# Altium integrated library Linear Technology Power Management LED Driver ICs.IntLib: 490 symbols (part 32 of 48)
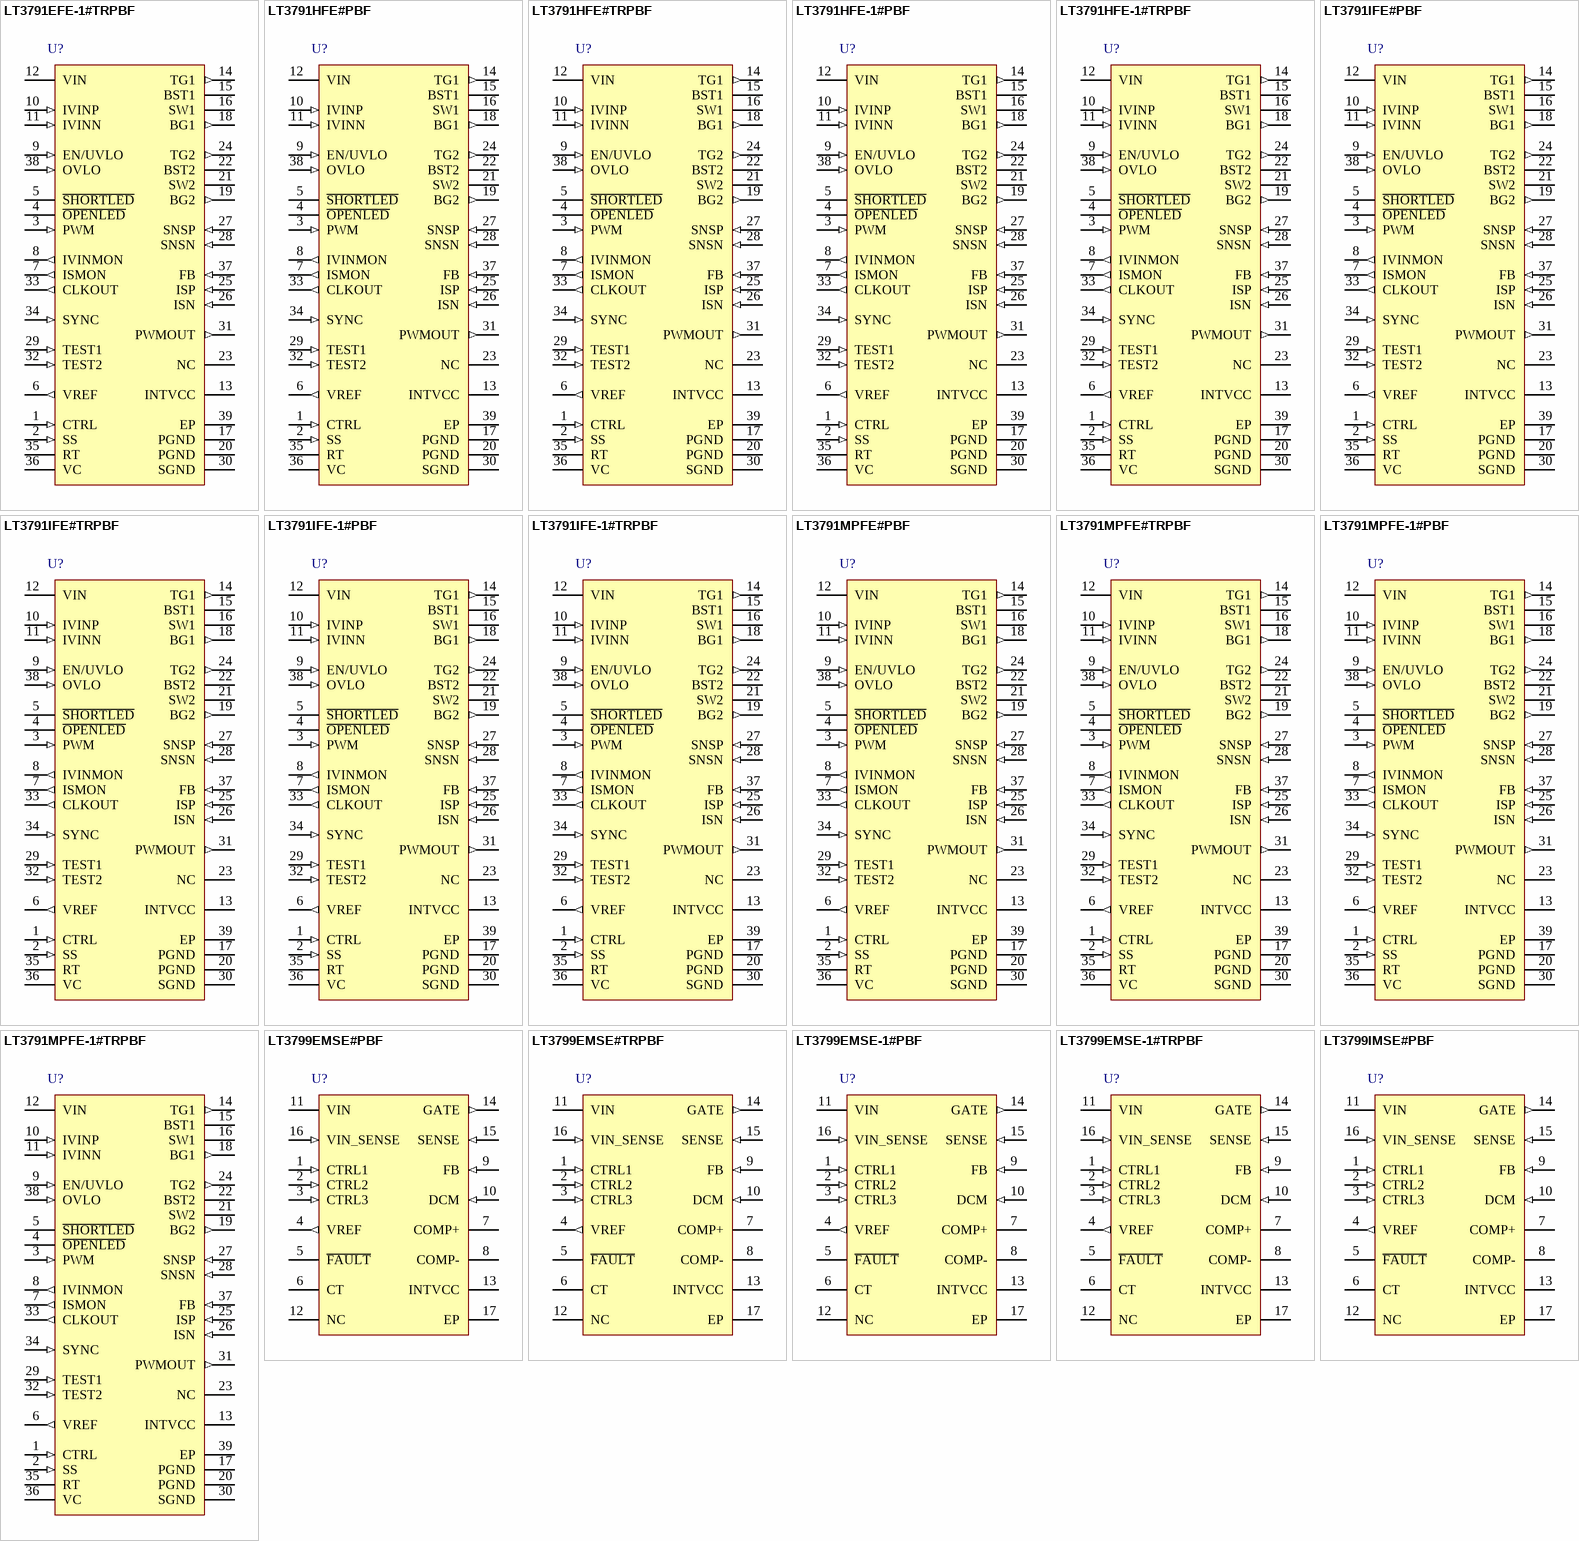
[diagram p51: symbols LT3791EFE-1#TRPBF to LT3799IMSE#PBF]

## LT3791IFE-1#TRPBF
designator U?
4-Switch Synchronous Buck-Boost LED Driver Controller, 4.7 to 60 V Vin, 60 V Vout MAX, 38-pin SOP (FE-28-EPV-AA), -40 to 125 degC, Pb-Free, Tape and Reel; Manufacturer: Linear Technology; PartNumber: LT3791IFE-1#TRPBF; Vin Min(V): 4.7; DatasheetVersion: Rev. A; PackageVersion: Rev. C, 09/2010; PackageReference: FE-38; PackageDescription: 38-Pin Plastic TSSOP, Body 9.7 x 4.4 mm, Pitch 0.5 mm; Supplier 1: Digi-Key; Supplier Part Number 1: LT3791IFE-1#TRPBF-ND; Supplier 2: Newark; Supplier Part Number 2: 27W9558; Packing: Tape and Reel; RoHS: TRUE; Topology: Buck-Boost; Mounting Technology: Surface Mount; ComponentLink1Description: Manufacturer URL; ComponentLink1URL: http://www.linear.com/; ComponentLink2Description: Datasheet; ComponentLink2URL: http://cds.linear.com/docs/en/datasheet/3791fa.pdf; ComponentLink3Description: Package Specification; ComponentLink3URL: http://cds.linear.com/docs/en/packaging/TSSOP_38_05-08-1772.pdf
footprint LT-FE-38-EPV-AA_N (SOP, 38-Leads, Body 9.8x4.5mm, Pitch 0.5mm, Thermal Pad 4.75x2.74mm, IPC Medium Density)
footprint LT-FE-38-EPV-AA_L (SOP, 38-Leads, Body 9.8x4.5mm, Pitch 0.5mm, Thermal Pad 4.75x2.74mm, IPC High Density)
footprint LT-FE-38-EPV-AA_M (SOP, 38-Leads, Body 9.8x4.5mm, Pitch 0.5mm, Thermal Pad 4.75x2.74mm, IPC Low Density)
pins: 1 CTRL (in) "Current Sense Threshold Adjustment Pin for Analog Dimming. Regulating threshold V(ISP-ISN) is 1/10th of (VCTRL - 200mV). CTRL linear range is from 200mV to 1.1V. For VCTRL > 1.3V, the current sense threshold is constant at (See Datasheet)", 2 SS (in) "Soft-start reduces the input power sources surge current by gradually increasing the controller’s current limit. A minimum value of 10nF is recommended on this pin. SS is used as a timer when an open or shorted LE(See Datasheet)", 3 PWM (in) "A signal low turns off switches, idles switching and disconnects the VC pin from all external loads. The PWMOUT pin follows the PWM pin. PWM has an internal 100k pull-down resistor. If not used, connect to INTVCC.", 4 ~{OPENLED} (oc) "An open-drain pull-down on O\P\E\N\L\E\D\ asserts if FB is greater than 1.15V (typical) and V(ISP-ISN) is less than 10mV (typical). To function, the pin requires an external pull-up resistor.", 5 ~{SHORTLED} (oc) "An open-drain pull-down on S\H\O\RT\L\E\D\ asserts if FB is less than 400mV (typical). To function, the pin requires an external pull-up resistor.", 6 VREF (out) "Voltage Reference Output Pin, Typically 2V. This pin drives a resistor divider for the CTRL pin, either for analog dimming or for temperature limit/compensation of the LED load. Can supply up to 200uA of current.", 7 ISMON (out) "Monitor pin that produces a voltage that is ten times the voltage V(ISP-ISN). ISMON will equal 1V when V(ISP-ISN) = 100mV.", 8 IVINMON (out) "Monitor pin that produces a voltage that is twenty times the voltage V(IVINP-IVINN). IVINMON will equal 1V when V(IVINP-IVINN) = 50mV.", 9 EN/UVLO (in) "Enable Control Pin. Forcing an accurate 1.2V falling threshold with an externally programmable hysteresis is generated by the external resistor divider and a 3uA pull-down current. Above the 1.2V (typical) threshold (but (See Datasheet)", 10 IVINP (in) "Positive Input for the Input Current Limit and Monitor. Input bias current for this pin is typically 90uA.", 11 IVINN (in) "Negative Input for the Input Current Limit and Monitor. The input bias current for this pin is typically 20uA.", 12 VIN (power) "Main Input Supply. Bypass this pin to PGND with a capacitor.", 13 INTVCC (power) "Internal 5V Regulator Output. The driver and control circuits are powered from this voltage. Bypass this pin to PGND with a minimum 4.7uF ceramic capacitor.", 14 TG1 (out) "Top Gate Drive. Drives the top N-channel MOSFET with a voltage equal to INTVCC superimposed on the switch node voltage SW1.", 15 BST1 "Bootstrapped Driver Supply. The BST1 pin swings from a diode voltage below INTVCC up to a diode voltage below VIN + INTVCC.", 16 SW1 "Switch Node. SW1 pin swings from a diode voltage drop below ground up to VIN.", 17 PGND (power) "Power Ground. Connect these pins closely to the source of the bottom N-channel MOSFET", 18 BG1 (out) "Bottom Gate Drive. Drives the gate of the bottom N-channel MOSFET between ground and INTVCC.", 19 BG2 (out) "Bottom Gate Drive. Drives the gate of the bottom N-channel MOSFET between ground and INTVCC.", 20 PGND (power) "Power Ground. Connect these pins closely to the source of the bottom N-channel MOSFET", 21 SW2 "Switch Node. SW2 pin swings from a diode voltage drop below ground up to VOUT.", 22 BST2 "Bootstrapped Driver Supply. The BST2 pin swings from a diode voltage below INTVCC up to a diode voltage below VOUT + INTVCC.", 23 NC "No Connect Pin. Leave this pin floating.", 24 TG2 (out) "Top Gate Drive. Drives the top N-channel MOSFET with a voltage equal to INTVCC superimposed on the switch node voltage SW2.", 25 ISP (in) "Connection Point for the Positive Terminal of the Output Current Feedback Resistor.", 26 ISN (in) "Connection Point for the Negative Terminal of the Output Current Feedback Resistor.", 27 SNSP (in) "The Positive Input to the Current Sense Comparator. The VC pin voltage and controlled offsets between the SNSP and SNSN pins, in conjunction with a resistor, set the current trip threshold.", 28 SNSN (in) "The Negative Input to the Current Sense Comparator.", 29 TEST1 (in) "This pin is used for testing purposes only and must be connected to SGND for the part to operate properly.", 30 SGND (power) "Signal Ground. All small-signal components and compensation should connect to this ground, which should be connected to PGND at a single point. Solder the exposed pad directly to the ground plane.", 31 PWMOUT (out) "Buffered Version of PWM Signal for Driving LED Load Disconnect N-Channel MOSFET. The PWMOUT pin is driven from INTVCC. Use of a MOSFET with a gate cutoff voltage higher than 1V is recommended.", 32 TEST2 (in) "This pin is used for testing purposes only and must be connected to INTVCC (Pin 13) for the part to operate properly.", 33 CLKOUT (out) "Clock Output Pin. An in-phase clock is provided at the oscillator frequency to allow for synchronizing two devices for extending output power capability.", 34 SYNC (in) "External Synchronization Input Pin. This pin is internally terminated to GND with a 90k resistor. The rising edge will be synchronized with the rising edge of the SYNC signal.", 35 RT "Frequency Set Pin. Place a resistor to GND to set the internal frequency. The range of oscillation is 200kHz to 700kHz.", 36 VC "Current Control Threshold and Error Amplifier Compensation Point. The current comparator threshold increases with this control voltage. The voltage ranges from 0.7V to 1.9V.", 37 FB (in) "Voltage Loop Feedback Pin. FB is intended for LED protection of an open or shorted LED event. The internal transconductance amplifier with output VC will regulate FB to 1.2V (typical) through the DC/DC converter. If the FB (See Datasheet)", 38 OVLO (in) "Overvoltage Input Pin. This pin is used for OVLO, if OVLO > 3V then SS is pulled low, the part stops switching and resets. Do not leave this pin open.", 39 EP (power) "Signal Ground. All small-signal components and compensation should connect to this ground, which should be connected to PGND at a single point. Solder the exposed pad directly to the ground plane."

## LT3791MPFE#PBF
designator U?
4-Switch Synchronous Buck-Boost LED Driver Controller, 4.7 to 60 V Vin, 60 V Vout MAX, 38-pin SOP (FE-28-EPV-AA), -55 to 150 degC, Pb-Free; Manufacturer: Linear Technology; PartNumber: LT3791MPFE#PBF; Vin Min(V): 4.7; DatasheetVersion: Rev. A; PackageVersion: Rev. C, 09/2010; PackageReference: FE-38; PackageDescription: 38-Pin Plastic TSSOP, Body 9.7 x 4.4 mm, Pitch 0.5 mm; Supplier 1: Digi-Key; Supplier Part Number 1: LT3791MPFE#PBF-ND; Supplier 2: Newark; Supplier Part Number 2: 94T1350; RoHS: TRUE; Topology: Buck-Boost; Mounting Technology: Surface Mount; ComponentLink1Description: Manufacturer URL; ComponentLink1URL: http://www.linear.com/; ComponentLink2Description: Datasheet; ComponentLink2URL: http://cds.linear.com/docs/en/datasheet/3791fa.pdf; ComponentLink3Description: Package Specification; ComponentLink3URL: http://cds.linear.com/docs/en/packaging/TSSOP_38_05-08-1772.pdf
footprint LT-FE-38-EPV-AA_N (SOP, 38-Leads, Body 9.8x4.5mm, Pitch 0.5mm, Thermal Pad 4.75x2.74mm, IPC Medium Density)
footprint LT-FE-38-EPV-AA_L (SOP, 38-Leads, Body 9.8x4.5mm, Pitch 0.5mm, Thermal Pad 4.75x2.74mm, IPC High Density)
footprint LT-FE-38-EPV-AA_M (SOP, 38-Leads, Body 9.8x4.5mm, Pitch 0.5mm, Thermal Pad 4.75x2.74mm, IPC Low Density)
pins: 1 CTRL (in) "Current Sense Threshold Adjustment Pin for Analog Dimming. Regulating threshold V(ISP-ISN) is 1/10th of (VCTRL - 200mV). CTRL linear range is from 200mV to 1.1V. For VCTRL > 1.3V, the current sense threshold is constant at (See Datasheet)", 2 SS (in) "Soft-start reduces the input power sources surge current by gradually increasing the controller’s current limit. A minimum value of 10nF is recommended on this pin. SS is used as a timer when an open or shorted LE(See Datasheet)", 3 PWM (in) "A signal low turns off switches, idles switching and disconnects the VC pin from all external loads. The PWMOUT pin follows the PWM pin. PWM has an internal 100k pull-down resistor. If not used, connect to INTVCC.", 4 ~{OPENLED} (oc) "An open-drain pull-down on O\P\E\N\L\E\D\ asserts if FB is greater than 1.15V (typical) and V(ISP-ISN) is less than 10mV (typical). To function, the pin requires an external pull-up resistor.", 5 ~{SHORTLED} (oc) "An open-drain pull-down on S\H\O\RT\L\E\D\ asserts if FB is less than 400mV (typical). To function, the pin requires an external pull-up resistor.", 6 VREF (out) "Voltage Reference Output Pin, Typically 2V. This pin drives a resistor divider for the CTRL pin, either for analog dimming or for temperature limit/compensation of the LED load. Can supply up to 200uA of current.", 7 ISMON (out) "Monitor pin that produces a voltage that is ten times the voltage V(ISP-ISN). ISMON will equal 1V when V(ISP-ISN) = 100mV.", 8 IVINMON (out) "Monitor pin that produces a voltage that is twenty times the voltage V(IVINP-IVINN). IVINMON will equal 1V when V(IVINP-IVINN) = 50mV.", 9 EN/UVLO (in) "Enable Control Pin. Forcing an accurate 1.2V falling threshold with an externally programmable hysteresis is generated by the external resistor divider and a 3uA pull-down current. Above the 1.2V (typical) threshold (but (See Datasheet)", 10 IVINP (in) "Positive Input for the Input Current Limit and Monitor. Input bias current for this pin is typically 90uA.", 11 IVINN (in) "Negative Input for the Input Current Limit and Monitor. The input bias current for this pin is typically 20uA.", 12 VIN (power) "Main Input Supply. Bypass this pin to PGND with a capacitor.", 13 INTVCC (power) "Internal 5V Regulator Output. The driver and control circuits are powered from this voltage. Bypass this pin to PGND with a minimum 4.7uF ceramic capacitor.", 14 TG1 (out) "Top Gate Drive. Drives the top N-channel MOSFET with a voltage equal to INTVCC superimposed on the switch node voltage SW1.", 15 BST1 "Bootstrapped Driver Supply. The BST1 pin swings from a diode voltage below INTVCC up to a diode voltage below VIN + INTVCC.", 16 SW1 "Switch Node. SW1 pin swings from a diode voltage drop below ground up to VIN.", 17 PGND (power) "Power Ground. Connect these pins closely to the source of the bottom N-channel MOSFET", 18 BG1 (out) "Bottom Gate Drive. Drives the gate of the bottom N-channel MOSFET between ground and INTVCC.", 19 BG2 (out) "Bottom Gate Drive. Drives the gate of the bottom N-channel MOSFET between ground and INTVCC.", 20 PGND (power) "Power Ground. Connect these pins closely to the source of the bottom N-channel MOSFET", 21 SW2 "Switch Node. SW2 pin swings from a diode voltage drop below ground up to VOUT.", 22 BST2 "Bootstrapped Driver Supply. The BST2 pin swings from a diode voltage below INTVCC up to a diode voltage below VOUT + INTVCC.", 23 NC "No Connect Pin. Leave this pin floating.", 24 TG2 (out) "Top Gate Drive. Drives the top N-channel MOSFET with a voltage equal to INTVCC superimposed on the switch node voltage SW2.", 25 ISP (in) "Connection Point for the Positive Terminal of the Output Current Feedback Resistor.", 26 ISN (in) "Connection Point for the Negative Terminal of the Output Current Feedback Resistor.", 27 SNSP (in) "The Positive Input to the Current Sense Comparator. The VC pin voltage and controlled offsets between the SNSP and SNSN pins, in conjunction with a resistor, set the current trip threshold.", 28 SNSN (in) "The Negative Input to the Current Sense Comparator.", 29 TEST1 (in) "This pin is used for testing purposes only and must be connected to SGND for the part to operate properly.", 30 SGND (power) "Signal Ground. All small-signal components and compensation should connect to this ground, which should be connected to PGND at a single point. Solder the exposed pad directly to the ground plane.", 31 PWMOUT (out) "Buffered Version of PWM Signal for Driving LED Load Disconnect N-Channel MOSFET. The PWMOUT pin is driven from INTVCC. Use of a MOSFET with a gate cutoff voltage higher than 1V is recommended.", 32 TEST2 (in) "This pin is used for testing purposes only and must be connected to INTVCC (Pin 13) for the part to operate properly.", 33 CLKOUT (out) "Clock Output Pin. An in-phase clock is provided at the oscillator frequency to allow for synchronizing two devices for extending output power capability.", 34 SYNC (in) "External Synchronization Input Pin. This pin is internally terminated to GND with a 90k resistor. The rising edge will be synchronized with the rising edge of the SYNC signal.", 35 RT "Frequency Set Pin. Place a resistor to GND to set the internal frequency. The range of oscillation is 200kHz to 700kHz.", 36 VC "Current Control Threshold and Error Amplifier Compensation Point. The current comparator threshold increases with this control voltage. The voltage ranges from 0.7V to 1.9V.", 37 FB (in) "Voltage Loop Feedback Pin. FB is intended for LED protection of an open or shorted LED event. The internal transconductance amplifier with output VC will regulate FB to 1.2V (typical) through the DC/DC converter. If the FB (See Datasheet)", 38 OVLO (in) "Overvoltage Input Pin. This pin is used for OVLO, if OVLO > 3V then SS is pulled low, the part stops switching and resets. Do not leave this pin open.", 39 EP (power) "Signal Ground. All small-signal components and compensation should connect to this ground, which should be connected to PGND at a single point. Solder the exposed pad directly to the ground plane."

## LT3791MPFE#TRPBF
designator U?
4-Switch Synchronous Buck-Boost LED Driver Controller, 4.7 to 60 V Vin, 60 V Vout MAX, 38-pin SOP (FE-28-EPV-AA), -55 to 150 degC, Pb-Free, Tape and Reel; Manufacturer: Linear Technology; PartNumber: LT3791MPFE#TRPBF; Vin Min(V): 4.7; DatasheetVersion: Rev. A; PackageVersion: Rev. C, 09/2010; PackageReference: FE-38; PackageDescription: 38-Pin Plastic TSSOP, Body 9.7 x 4.4 mm, Pitch 0.5 mm; Supplier 1: Digi-Key; Supplier Part Number 1: LT3791MPFE#TRPBF-ND; Supplier 2: Newark; Supplier Part Number 2: 94T1351; Packing: Tape and Reel; RoHS: TRUE; Topology: Buck-Boost; Mounting Technology: Surface Mount; ComponentLink1Description: Manufacturer URL; ComponentLink1URL: http://www.linear.com/; ComponentLink2Description: Datasheet; ComponentLink2URL: http://cds.linear.com/docs/en/datasheet/3791fa.pdf; ComponentLink3Description: Package Specification; ComponentLink3URL: http://cds.linear.com/docs/en/packaging/TSSOP_38_05-08-1772.pdf
footprint LT-FE-38-EPV-AA_N (SOP, 38-Leads, Body 9.8x4.5mm, Pitch 0.5mm, Thermal Pad 4.75x2.74mm, IPC Medium Density)
footprint LT-FE-38-EPV-AA_L (SOP, 38-Leads, Body 9.8x4.5mm, Pitch 0.5mm, Thermal Pad 4.75x2.74mm, IPC High Density)
footprint LT-FE-38-EPV-AA_M (SOP, 38-Leads, Body 9.8x4.5mm, Pitch 0.5mm, Thermal Pad 4.75x2.74mm, IPC Low Density)
pins: 1 CTRL (in) "Current Sense Threshold Adjustment Pin for Analog Dimming. Regulating threshold V(ISP-ISN) is 1/10th of (VCTRL - 200mV). CTRL linear range is from 200mV to 1.1V. For VCTRL > 1.3V, the current sense threshold is constant at (See Datasheet)", 2 SS (in) "Soft-start reduces the input power sources surge current by gradually increasing the controller’s current limit. A minimum value of 10nF is recommended on this pin. SS is used as a timer when an open or shorted LE(See Datasheet)", 3 PWM (in) "A signal low turns off switches, idles switching and disconnects the VC pin from all external loads. The PWMOUT pin follows the PWM pin. PWM has an internal 100k pull-down resistor. If not used, connect to INTVCC.", 4 ~{OPENLED} (oc) "An open-drain pull-down on O\P\E\N\L\E\D\ asserts if FB is greater than 1.15V (typical) and V(ISP-ISN) is less than 10mV (typical). To function, the pin requires an external pull-up resistor.", 5 ~{SHORTLED} (oc) "An open-drain pull-down on S\H\O\RT\L\E\D\ asserts if FB is less than 400mV (typical). To function, the pin requires an external pull-up resistor.", 6 VREF (out) "Voltage Reference Output Pin, Typically 2V. This pin drives a resistor divider for the CTRL pin, either for analog dimming or for temperature limit/compensation of the LED load. Can supply up to 200uA of current.", 7 ISMON (out) "Monitor pin that produces a voltage that is ten times the voltage V(ISP-ISN). ISMON will equal 1V when V(ISP-ISN) = 100mV.", 8 IVINMON (out) "Monitor pin that produces a voltage that is twenty times the voltage V(IVINP-IVINN). IVINMON will equal 1V when V(IVINP-IVINN) = 50mV.", 9 EN/UVLO (in) "Enable Control Pin. Forcing an accurate 1.2V falling threshold with an externally programmable hysteresis is generated by the external resistor divider and a 3uA pull-down current. Above the 1.2V (typical) threshold (but (See Datasheet)", 10 IVINP (in) "Positive Input for the Input Current Limit and Monitor. Input bias current for this pin is typically 90uA.", 11 IVINN (in) "Negative Input for the Input Current Limit and Monitor. The input bias current for this pin is typically 20uA.", 12 VIN (power) "Main Input Supply. Bypass this pin to PGND with a capacitor.", 13 INTVCC (power) "Internal 5V Regulator Output. The driver and control circuits are powered from this voltage. Bypass this pin to PGND with a minimum 4.7uF ceramic capacitor.", 14 TG1 (out) "Top Gate Drive. Drives the top N-channel MOSFET with a voltage equal to INTVCC superimposed on the switch node voltage SW1.", 15 BST1 "Bootstrapped Driver Supply. The BST1 pin swings from a diode voltage below INTVCC up to a diode voltage below VIN + INTVCC.", 16 SW1 "Switch Node. SW1 pin swings from a diode voltage drop below ground up to VIN.", 17 PGND (power) "Power Ground. Connect these pins closely to the source of the bottom N-channel MOSFET", 18 BG1 (out) "Bottom Gate Drive. Drives the gate of the bottom N-channel MOSFET between ground and INTVCC.", 19 BG2 (out) "Bottom Gate Drive. Drives the gate of the bottom N-channel MOSFET between ground and INTVCC.", 20 PGND (power) "Power Ground. Connect these pins closely to the source of the bottom N-channel MOSFET", 21 SW2 "Switch Node. SW2 pin swings from a diode voltage drop below ground up to VOUT.", 22 BST2 "Bootstrapped Driver Supply. The BST2 pin swings from a diode voltage below INTVCC up to a diode voltage below VOUT + INTVCC.", 23 NC "No Connect Pin. Leave this pin floating.", 24 TG2 (out) "Top Gate Drive. Drives the top N-channel MOSFET with a voltage equal to INTVCC superimposed on the switch node voltage SW2.", 25 ISP (in) "Connection Point for the Positive Terminal of the Output Current Feedback Resistor.", 26 ISN (in) "Connection Point for the Negative Terminal of the Output Current Feedback Resistor.", 27 SNSP (in) "The Positive Input to the Current Sense Comparator. The VC pin voltage and controlled offsets between the SNSP and SNSN pins, in conjunction with a resistor, set the current trip threshold.", 28 SNSN (in) "The Negative Input to the Current Sense Comparator.", 29 TEST1 (in) "This pin is used for testing purposes only and must be connected to SGND for the part to operate properly.", 30 SGND (power) "Signal Ground. All small-signal components and compensation should connect to this ground, which should be connected to PGND at a single point. Solder the exposed pad directly to the ground plane.", 31 PWMOUT (out) "Buffered Version of PWM Signal for Driving LED Load Disconnect N-Channel MOSFET. The PWMOUT pin is driven from INTVCC. Use of a MOSFET with a gate cutoff voltage higher than 1V is recommended.", 32 TEST2 (in) "This pin is used for testing purposes only and must be connected to INTVCC (Pin 13) for the part to operate properly.", 33 CLKOUT (out) "Clock Output Pin. An in-phase clock is provided at the oscillator frequency to allow for synchronizing two devices for extending output power capability.", 34 SYNC (in) "External Synchronization Input Pin. This pin is internally terminated to GND with a 90k resistor. The rising edge will be synchronized with the rising edge of the SYNC signal.", 35 RT "Frequency Set Pin. Place a resistor to GND to set the internal frequency. The range of oscillation is 200kHz to 700kHz.", 36 VC "Current Control Threshold and Error Amplifier Compensation Point. The current comparator threshold increases with this control voltage. The voltage ranges from 0.7V to 1.9V.", 37 FB (in) "Voltage Loop Feedback Pin. FB is intended for LED protection of an open or shorted LED event. The internal transconductance amplifier with output VC will regulate FB to 1.2V (typical) through the DC/DC converter. If the FB (See Datasheet)", 38 OVLO (in) "Overvoltage Input Pin. This pin is used for OVLO, if OVLO > 3V then SS is pulled low, the part stops switching and resets. Do not leave this pin open.", 39 EP (power) "Signal Ground. All small-signal components and compensation should connect to this ground, which should be connected to PGND at a single point. Solder the exposed pad directly to the ground plane."

## LT3791MPFE-1#PBF
designator U?
4-Switch Synchronous Buck-Boost LED Driver Controller, 4.7 to 60 V Vin, 60 V Vout MAX, 38-pin SOP (FE-28-EPV-AA), -55 to 150 degC, Pb-Free; Manufacturer: Linear Technology; PartNumber: LT3791MPFE-1#PBF; Vin Min(V): 4.7; DatasheetVersion: Rev. A; PackageVersion: Rev. C, 09/2010; PackageReference: FE-38; PackageDescription: 38-Pin Plastic TSSOP, Body 9.7 x 4.4 mm, Pitch 0.5 mm; Supplier 1: Digi-Key; Supplier Part Number 1: LT3791MPFE-1#PBF-ND; Supplier 2: Newark; Supplier Part Number 2: 27W9559; RoHS: TRUE; Topology: Buck-Boost; Mounting Technology: Surface Mount; ComponentLink1Description: Manufacturer URL; ComponentLink1URL: http://www.linear.com/; ComponentLink2Description: Datasheet; ComponentLink2URL: http://cds.linear.com/docs/en/datasheet/3791fa.pdf; ComponentLink3Description: Package Specification; ComponentLink3URL: http://cds.linear.com/docs/en/packaging/TSSOP_38_05-08-1772.pdf
footprint LT-FE-38-EPV-AA_N (SOP, 38-Leads, Body 9.8x4.5mm, Pitch 0.5mm, Thermal Pad 4.75x2.74mm, IPC Medium Density)
footprint LT-FE-38-EPV-AA_L (SOP, 38-Leads, Body 9.8x4.5mm, Pitch 0.5mm, Thermal Pad 4.75x2.74mm, IPC High Density)
footprint LT-FE-38-EPV-AA_M (SOP, 38-Leads, Body 9.8x4.5mm, Pitch 0.5mm, Thermal Pad 4.75x2.74mm, IPC Low Density)
pins: 1 CTRL (in) "Current Sense Threshold Adjustment Pin for Analog Dimming. Regulating threshold V(ISP-ISN) is 1/10th of (VCTRL - 200mV). CTRL linear range is from 200mV to 1.1V. For VCTRL > 1.3V, the current sense threshold is constant at (See Datasheet)", 2 SS (in) "Soft-start reduces the input power sources surge current by gradually increasing the controller’s current limit. A minimum value of 10nF is recommended on this pin. SS is used as a timer when an open or shorted LE(See Datasheet)", 3 PWM (in) "A signal low turns off switches, idles switching and disconnects the VC pin from all external loads. The PWMOUT pin follows the PWM pin. PWM has an internal 100k pull-down resistor. If not used, connect to INTVCC.", 4 ~{OPENLED} (oc) "An open-drain pull-down on O\P\E\N\L\E\D\ asserts if FB is greater than 1.15V (typical) and V(ISP-ISN) is less than 10mV (typical). To function, the pin requires an external pull-up resistor.", 5 ~{SHORTLED} (oc) "An open-drain pull-down on S\H\O\RT\L\E\D\ asserts if FB is less than 400mV (typical). To function, the pin requires an external pull-up resistor.", 6 VREF (out) "Voltage Reference Output Pin, Typically 2V. This pin drives a resistor divider for the CTRL pin, either for analog dimming or for temperature limit/compensation of the LED load. Can supply up to 200uA of current.", 7 ISMON (out) "Monitor pin that produces a voltage that is ten times the voltage V(ISP-ISN). ISMON will equal 1V when V(ISP-ISN) = 100mV.", 8 IVINMON (out) "Monitor pin that produces a voltage that is twenty times the voltage V(IVINP-IVINN). IVINMON will equal 1V when V(IVINP-IVINN) = 50mV.", 9 EN/UVLO (in) "Enable Control Pin. Forcing an accurate 1.2V falling threshold with an externally programmable hysteresis is generated by the external resistor divider and a 3uA pull-down current. Above the 1.2V (typical) threshold (but (See Datasheet)", 10 IVINP (in) "Positive Input for the Input Current Limit and Monitor. Input bias current for this pin is typically 90uA.", 11 IVINN (in) "Negative Input for the Input Current Limit and Monitor. The input bias current for this pin is typically 20uA.", 12 VIN (power) "Main Input Supply. Bypass this pin to PGND with a capacitor.", 13 INTVCC (power) "Internal 5V Regulator Output. The driver and control circuits are powered from this voltage. Bypass this pin to PGND with a minimum 4.7uF ceramic capacitor.", 14 TG1 (out) "Top Gate Drive. Drives the top N-channel MOSFET with a voltage equal to INTVCC superimposed on the switch node voltage SW1.", 15 BST1 "Bootstrapped Driver Supply. The BST1 pin swings from a diode voltage below INTVCC up to a diode voltage below VIN + INTVCC.", 16 SW1 "Switch Node. SW1 pin swings from a diode voltage drop below ground up to VIN.", 17 PGND (power) "Power Ground. Connect these pins closely to the source of the bottom N-channel MOSFET", 18 BG1 (out) "Bottom Gate Drive. Drives the gate of the bottom N-channel MOSFET between ground and INTVCC.", 19 BG2 (out) "Bottom Gate Drive. Drives the gate of the bottom N-channel MOSFET between ground and INTVCC.", 20 PGND (power) "Power Ground. Connect these pins closely to the source of the bottom N-channel MOSFET", 21 SW2 "Switch Node. SW2 pin swings from a diode voltage drop below ground up to VOUT.", 22 BST2 "Bootstrapped Driver Supply. The BST2 pin swings from a diode voltage below INTVCC up to a diode voltage below VOUT + INTVCC.", 23 NC "No Connect Pin. Leave this pin floating.", 24 TG2 (out) "Top Gate Drive. Drives the top N-channel MOSFET with a voltage equal to INTVCC superimposed on the switch node voltage SW2.", 25 ISP (in) "Connection Point for the Positive Terminal of the Output Current Feedback Resistor.", 26 ISN (in) "Connection Point for the Negative Terminal of the Output Current Feedback Resistor.", 27 SNSP (in) "The Positive Input to the Current Sense Comparator. The VC pin voltage and controlled offsets between the SNSP and SNSN pins, in conjunction with a resistor, set the current trip threshold.", 28 SNSN (in) "The Negative Input to the Current Sense Comparator.", 29 TEST1 (in) "This pin is used for testing purposes only and must be connected to SGND for the part to operate properly.", 30 SGND (power) "Signal Ground. All small-signal components and compensation should connect to this ground, which should be connected to PGND at a single point. Solder the exposed pad directly to the ground plane.", 31 PWMOUT (out) "Buffered Version of PWM Signal for Driving LED Load Disconnect N-Channel MOSFET. The PWMOUT pin is driven from INTVCC. Use of a MOSFET with a gate cutoff voltage higher than 1V is recommended.", 32 TEST2 (in) "This pin is used for testing purposes only and must be connected to INTVCC (Pin 13) for the part to operate properly.", 33 CLKOUT (out) "Clock Output Pin. An in-phase clock is provided at the oscillator frequency to allow for synchronizing two devices for extending output power capability.", 34 SYNC (in) "External Synchronization Input Pin. This pin is internally terminated to GND with a 90k resistor. The rising edge will be synchronized with the rising edge of the SYNC signal.", 35 RT "Frequency Set Pin. Place a resistor to GND to set the internal frequency. The range of oscillation is 200kHz to 700kHz.", 36 VC "Current Control Threshold and Error Amplifier Compensation Point. The current comparator threshold increases with this control voltage. The voltage ranges from 0.7V to 1.9V.", 37 FB (in) "Voltage Loop Feedback Pin. FB is intended for LED protection of an open or shorted LED event. The internal transconductance amplifier with output VC will regulate FB to 1.2V (typical) through the DC/DC converter. If the FB (See Datasheet)", 38 OVLO (in) "Overvoltage Input Pin. This pin is used for OVLO, if OVLO > 3V then SS is pulled low, the part stops switching and resets. Do not leave this pin open.", 39 EP (power) "Signal Ground. All small-signal components and compensation should connect to this ground, which should be connected to PGND at a single point. Solder the exposed pad directly to the ground plane."

## LT3791MPFE-1#TRPBF
designator U?
4-Switch Synchronous Buck-Boost LED Driver Controller, 4.7 to 60 V Vin, 60 V Vout MAX, 38-pin SOP (FE-28-EPV-AA), -55 to 150 degC, Pb-Free, Tape and Reel; Manufacturer: Linear Technology; PartNumber: LT3791MPFE-1#TRPBF; Vin Min(V): 4.7; DatasheetVersion: Rev. A; PackageVersion: Rev. C, 09/2010; PackageReference: FE-38; PackageDescription: 38-Pin Plastic TSSOP, Body 9.7 x 4.4 mm, Pitch 0.5 mm; Supplier 1: Digi-Key; Supplier Part Number 1: LT3791MPFE-1#TRPBF-ND; Supplier 2: Newark; Supplier Part Number 2: 27W9560; Packing: Tape and Reel; RoHS: TRUE; Topology: Buck-Boost; Mounting Technology: Surface Mount; ComponentLink1Description: Manufacturer URL; ComponentLink1URL: http://www.linear.com/; ComponentLink2Description: Datasheet; ComponentLink2URL: http://cds.linear.com/docs/en/datasheet/3791fa.pdf; ComponentLink3Description: Package Specification; ComponentLink3URL: http://cds.linear.com/docs/en/packaging/TSSOP_38_05-08-1772.pdf
footprint LT-FE-38-EPV-AA_N (SOP, 38-Leads, Body 9.8x4.5mm, Pitch 0.5mm, Thermal Pad 4.75x2.74mm, IPC Medium Density)
footprint LT-FE-38-EPV-AA_L (SOP, 38-Leads, Body 9.8x4.5mm, Pitch 0.5mm, Thermal Pad 4.75x2.74mm, IPC High Density)
footprint LT-FE-38-EPV-AA_M (SOP, 38-Leads, Body 9.8x4.5mm, Pitch 0.5mm, Thermal Pad 4.75x2.74mm, IPC Low Density)
pins: 1 CTRL (in) "Current Sense Threshold Adjustment Pin for Analog Dimming. Regulating threshold V(ISP-ISN) is 1/10th of (VCTRL - 200mV). CTRL linear range is from 200mV to 1.1V. For VCTRL > 1.3V, the current sense threshold is constant at (See Datasheet)", 2 SS (in) "Soft-start reduces the input power sources surge current by gradually increasing the controller’s current limit. A minimum value of 10nF is recommended on this pin. SS is used as a timer when an open or shorted LE(See Datasheet)", 3 PWM (in) "A signal low turns off switches, idles switching and disconnects the VC pin from all external loads. The PWMOUT pin follows the PWM pin. PWM has an internal 100k pull-down resistor. If not used, connect to INTVCC.", 4 ~{OPENLED} (oc) "An open-drain pull-down on O\P\E\N\L\E\D\ asserts if FB is greater than 1.15V (typical) and V(ISP-ISN) is less than 10mV (typical). To function, the pin requires an external pull-up resistor.", 5 ~{SHORTLED} (oc) "An open-drain pull-down on S\H\O\RT\L\E\D\ asserts if FB is less than 400mV (typical). To function, the pin requires an external pull-up resistor.", 6 VREF (out) "Voltage Reference Output Pin, Typically 2V. This pin drives a resistor divider for the CTRL pin, either for analog dimming or for temperature limit/compensation of the LED load. Can supply up to 200uA of current.", 7 ISMON (out) "Monitor pin that produces a voltage that is ten times the voltage V(ISP-ISN). ISMON will equal 1V when V(ISP-ISN) = 100mV.", 8 IVINMON (out) "Monitor pin that produces a voltage that is twenty times the voltage V(IVINP-IVINN). IVINMON will equal 1V when V(IVINP-IVINN) = 50mV.", 9 EN/UVLO (in) "Enable Control Pin. Forcing an accurate 1.2V falling threshold with an externally programmable hysteresis is generated by the external resistor divider and a 3uA pull-down current. Above the 1.2V (typical) threshold (but (See Datasheet)", 10 IVINP (in) "Positive Input for the Input Current Limit and Monitor. Input bias current for this pin is typically 90uA.", 11 IVINN (in) "Negative Input for the Input Current Limit and Monitor. The input bias current for this pin is typically 20uA.", 12 VIN (power) "Main Input Supply. Bypass this pin to PGND with a capacitor.", 13 INTVCC (power) "Internal 5V Regulator Output. The driver and control circuits are powered from this voltage. Bypass this pin to PGND with a minimum 4.7uF ceramic capacitor.", 14 TG1 (out) "Top Gate Drive. Drives the top N-channel MOSFET with a voltage equal to INTVCC superimposed on the switch node voltage SW1.", 15 BST1 "Bootstrapped Driver Supply. The BST1 pin swings from a diode voltage below INTVCC up to a diode voltage below VIN + INTVCC.", 16 SW1 "Switch Node. SW1 pin swings from a diode voltage drop below ground up to VIN.", 17 PGND (power) "Power Ground. Connect these pins closely to the source of the bottom N-channel MOSFET", 18 BG1 (out) "Bottom Gate Drive. Drives the gate of the bottom N-channel MOSFET between ground and INTVCC.", 19 BG2 (out) "Bottom Gate Drive. Drives the gate of the bottom N-channel MOSFET between ground and INTVCC.", 20 PGND (power) "Power Ground. Connect these pins closely to the source of the bottom N-channel MOSFET", 21 SW2 "Switch Node. SW2 pin swings from a diode voltage drop below ground up to VOUT.", 22 BST2 "Bootstrapped Driver Supply. The BST2 pin swings from a diode voltage below INTVCC up to a diode voltage below VOUT + INTVCC.", 23 NC "No Connect Pin. Leave this pin floating.", 24 TG2 (out) "Top Gate Drive. Drives the top N-channel MOSFET with a voltage equal to INTVCC superimposed on the switch node voltage SW2.", 25 ISP (in) "Connection Point for the Positive Terminal of the Output Current Feedback Resistor.", 26 ISN (in) "Connection Point for the Negative Terminal of the Output Current Feedback Resistor.", 27 SNSP (in) "The Positive Input to the Current Sense Comparator. The VC pin voltage and controlled offsets between the SNSP and SNSN pins, in conjunction with a resistor, set the current trip threshold.", 28 SNSN (in) "The Negative Input to the Current Sense Comparator.", 29 TEST1 (in) "This pin is used for testing purposes only and must be connected to SGND for the part to operate properly.", 30 SGND (power) "Signal Ground. All small-signal components and compensation should connect to this ground, which should be connected to PGND at a single point. Solder the exposed pad directly to the ground plane.", 31 PWMOUT (out) "Buffered Version of PWM Signal for Driving LED Load Disconnect N-Channel MOSFET. The PWMOUT pin is driven from INTVCC. Use of a MOSFET with a gate cutoff voltage higher than 1V is recommended.", 32 TEST2 (in) "This pin is used for testing purposes only and must be connected to INTVCC (Pin 13) for the part to operate properly.", 33 CLKOUT (out) "Clock Output Pin. An in-phase clock is provided at the oscillator frequency to allow for synchronizing two devices for extending output power capability.", 34 SYNC (in) "External Synchronization Input Pin. This pin is internally terminated to GND with a 90k resistor. The rising edge will be synchronized with the rising edge of the SYNC signal.", 35 RT "Frequency Set Pin. Place a resistor to GND to set the internal frequency. The range of oscillation is 200kHz to 700kHz.", 36 VC "Current Control Threshold and Error Amplifier Compensation Point. The current comparator threshold increases with this control voltage. The voltage ranges from 0.7V to 1.9V.", 37 FB (in) "Voltage Loop Feedback Pin. FB is intended for LED protection of an open or shorted LED event. The internal transconductance amplifier with output VC will regulate FB to 1.2V (typical) through the DC/DC converter. If the FB (See Datasheet)", 38 OVLO (in) "Overvoltage Input Pin. This pin is used for OVLO, if OVLO > 3V then SS is pulled low, the part stops switching and resets. Do not leave this pin open.", 39 EP (power) "Signal Ground. All small-signal components and compensation should connect to this ground, which should be connected to PGND at a single point. Solder the exposed pad directly to the ground plane."

## LT3799EMSE#PBF
designator U?
Offline Isolated Flyback LED Controller with Active PFC, Offline 4 to 100 W+ LED Application, 16-pin SOP (MSE-16-EDP), -40 to 125 degC, Pb-Free; Manufacturer: Linear Technology; PartNumber: LT3799EMSE#PBF; DatasheetVersion: Rev. A; PackageVersion: Rev. F, 05/2013; PackageReference: MSE-16; PackageDescription: 16-Pin Plastic MSOP, Exposed Die Pad, Body 4.039 x 3 mm, Pitch 0.5 mm; Supplier 1: Digi-Key; Supplier Part Number 1: LT3799EMSE#PBF-ND; Supplier 2: Newark; Supplier Part Number 2: 28T0559; RoHS: TRUE; Topology: Flyback; Mounting Technology: Surface Mount; ComponentLink1Description: Manufacturer URL; ComponentLink1URL: http://www.linear.com/; ComponentLink2Description: Datasheet; ComponentLink2URL: http://cds.linear.com/docs/en/datasheet/3799fa.pdf; ComponentLink3Description: Package Specification; ComponentLink3URL: http://cds.linear.com/docs/en/packaging/05081667_F_MSE16.pdf
footprint LT-MSE-16-EDP_N (SOP, 16-Leads, Body 4.1x3.1mm, Pitch 0.5mm, Thermal Pad 2.95x1.76mm, IPC Medium Density)
footprint LT-MSE-16-EDP_L (SOP, 16-Leads, Body 4.1x3.1mm, Pitch 0.5mm, Thermal Pad 2.95x1.76mm, IPC High Density)
footprint LT-MSE-16-EDP_M (SOP, 16-Leads, Body 4.1x3.1mm, Pitch 0.5mm, Thermal Pad 2.95x1.76mm, IPC Low Density)
pins: 1 CTRL1 (in) "Current Output Adjustment Pins. These pins control the output current. The lowest value of the three CTRL inputs is compared to the negative input of the operational amplifier. Due to the unique nature of the LT3799 control (See Datasheet)", 2 CTRL2 (in) "Current Output Adjustment Pins. These pins control the output current. The lowest value of the three CTRL inputs is compared to the negative input of the operational amplifier. Due to the unique nature of the LT3799 control (See Datasheet)", 3 CTRL3 (in) "Current Output Adjustment Pins. These pins control the output current. The lowest value of the three CTRL inputs is compared to the negative input of the operational amplifier. Due to the unique nature of the LT3799 control (See Datasheet)", 4 VREF (out) "Voltage Reference Output Pin, Typically 2V. This pin drives a resistor divider for the CTRL pin, either for analog dimming or for temperature limit/compensation of LED load. Can supply up to 200uA.", 5 ~{FAULT} (oc) "Fault Pin. An open-collector pull-down on F\A\U\L\T\ asserts if FB is greater than 1.25V with the CT pin higher than 1.25V.", 6 CT "Timer Fault Pin. A capacitor is connected between this pin and ground to provide an internal timer for fault operations. During start-up, this pin is pulled to ground and then charged with a 10uA current. Faults related to (See Datasheet)", 7 COMP+ "Compensation Pins for Internal Error Amplifier. Connect a capacitor between these two pins to compensate the internal feedback loop.", 8 COMP- "Compensation Pins for Internal Error Amplifier. Connect a capacitor between these two pins to compensate the internal feedback loop.", 9 FB (in) "Voltage Loop Feedback Pin. FB is used to detect open LED conditions by sampling the third winding voltage. An open LED condition is reported if the CT pin and the FB pin are higher than 1.25V.", 10 DCM (in) "Discontinuous Conduction Mode Detection Pin. Connect a capacitor and resistor in series with this pin to the third winding.", 11 VIN (power) "Input Voltage. This pin supplies current to the internal start-up circuitry and to the INTVCC LDO. This pin must be locally bypassed with a capacitor. A 25V shunt regulator is internally connected to this pin.", 12 NC, 13 INTVCC (power) "Regulated Supply for Internal Loads and GATE Driver. Supplied from VIN and regulates to 10V (typical). INTVCC must be bypassed with a 4.7uF capacitor placed close to the pin.", 14 GATE (out) "N-Channel MOSFET Gate Driver Output. Switches between INTVCC and GND. This pin is pulled to GND during shutdown state.", 15 SENSE (in) "The Current Sense Input for the Control Loop. Kelvin connect this pin to the positive terminal of the switch current sense resistor, RSENSE, and the source of the N-channel MOSFET. The negative terminal of the current sense (See Datasheet)", 16 VIN_SENSE (in) "Line Voltage Sense Pin. The pin is used for sensing the AC line voltage to perform power factor correction. Connect the output of a resistor divider from the line voltage to this pin. The voltage on this pin should be (See Datasheet)", 17 EP (power) "Ground. The exposed pad of the package provides both electrical contact to ground and good thermal contact to the printed circuit board. The exposed pad must be soldered to the circuit board for proper operation."

## LT3799EMSE#TRPBF
designator U?
Offline Isolated Flyback LED Controller with Active PFC, Offline 4 to 100 W+ LED Application, 16-pin SOP (MSE-16-EDP), -40 to 125 degC, Pb-Free, Tape and Reel; Manufacturer: Linear Technology; PartNumber: LT3799EMSE#TRPBF; DatasheetVersion: Rev. A; PackageVersion: Rev. F, 05/2013; PackageReference: MSE-16; PackageDescription: 16-Pin Plastic MSOP, Exposed Die Pad, Body 4.039 x 3 mm, Pitch 0.5 mm; Supplier 1: Digi-Key; Supplier Part Number 1: LT3799EMSE#TRPBF-ND; Supplier 2: Newark; Supplier Part Number 2: 59T5835; Packing: Tape and Reel; RoHS: TRUE; Topology: Flyback; Mounting Technology: Surface Mount; ComponentLink1Description: Manufacturer URL; ComponentLink1URL: http://www.linear.com/; ComponentLink2Description: Datasheet; ComponentLink2URL: http://cds.linear.com/docs/en/datasheet/3799fa.pdf; ComponentLink3Description: Package Specification; ComponentLink3URL: http://cds.linear.com/docs/en/packaging/05081667_F_MSE16.pdf
footprint LT-MSE-16-EDP_N (SOP, 16-Leads, Body 4.1x3.1mm, Pitch 0.5mm, Thermal Pad 2.95x1.76mm, IPC Medium Density)
footprint LT-MSE-16-EDP_L (SOP, 16-Leads, Body 4.1x3.1mm, Pitch 0.5mm, Thermal Pad 2.95x1.76mm, IPC High Density)
footprint LT-MSE-16-EDP_M (SOP, 16-Leads, Body 4.1x3.1mm, Pitch 0.5mm, Thermal Pad 2.95x1.76mm, IPC Low Density)
pins: 1 CTRL1 (in) "Current Output Adjustment Pins. These pins control the output current. The lowest value of the three CTRL inputs is compared to the negative input of the operational amplifier. Due to the unique nature of the LT3799 control (See Datasheet)", 2 CTRL2 (in) "Current Output Adjustment Pins. These pins control the output current. The lowest value of the three CTRL inputs is compared to the negative input of the operational amplifier. Due to the unique nature of the LT3799 control (See Datasheet)", 3 CTRL3 (in) "Current Output Adjustment Pins. These pins control the output current. The lowest value of the three CTRL inputs is compared to the negative input of the operational amplifier. Due to the unique nature of the LT3799 control (See Datasheet)", 4 VREF (out) "Voltage Reference Output Pin, Typically 2V. This pin drives a resistor divider for the CTRL pin, either for analog dimming or for temperature limit/compensation of LED load. Can supply up to 200uA.", 5 ~{FAULT} (oc) "Fault Pin. An open-collector pull-down on F\A\U\L\T\ asserts if FB is greater than 1.25V with the CT pin higher than 1.25V.", 6 CT "Timer Fault Pin. A capacitor is connected between this pin and ground to provide an internal timer for fault operations. During start-up, this pin is pulled to ground and then charged with a 10uA current. Faults related to (See Datasheet)", 7 COMP+ "Compensation Pins for Internal Error Amplifier. Connect a capacitor between these two pins to compensate the internal feedback loop.", 8 COMP- "Compensation Pins for Internal Error Amplifier. Connect a capacitor between these two pins to compensate the internal feedback loop.", 9 FB (in) "Voltage Loop Feedback Pin. FB is used to detect open LED conditions by sampling the third winding voltage. An open LED condition is reported if the CT pin and the FB pin are higher than 1.25V.", 10 DCM (in) "Discontinuous Conduction Mode Detection Pin. Connect a capacitor and resistor in series with this pin to the third winding.", 11 VIN (power) "Input Voltage. This pin supplies current to the internal start-up circuitry and to the INTVCC LDO. This pin must be locally bypassed with a capacitor. A 25V shunt regulator is internally connected to this pin.", 12 NC, 13 INTVCC (power) "Regulated Supply for Internal Loads and GATE Driver. Supplied from VIN and regulates to 10V (typical). INTVCC must be bypassed with a 4.7uF capacitor placed close to the pin.", 14 GATE (out) "N-Channel MOSFET Gate Driver Output. Switches between INTVCC and GND. This pin is pulled to GND during shutdown state.", 15 SENSE (in) "The Current Sense Input for the Control Loop. Kelvin connect this pin to the positive terminal of the switch current sense resistor, RSENSE, and the source of the N-channel MOSFET. The negative terminal of the current sense (See Datasheet)", 16 VIN_SENSE (in) "Line Voltage Sense Pin. The pin is used for sensing the AC line voltage to perform power factor correction. Connect the output of a resistor divider from the line voltage to this pin. The voltage on this pin should be (See Datasheet)", 17 EP (power) "Ground. The exposed pad of the package provides both electrical contact to ground and good thermal contact to the printed circuit board. The exposed pad must be soldered to the circuit board for proper operation."